# EAGLE library part USB-TTL_CH340 (library FansElectronics-Modul)
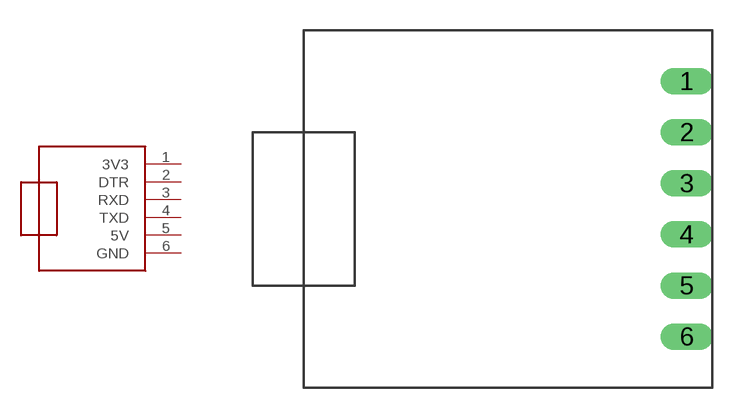
[diagram p41: symbol with the pads of USB-TTL_CH340; footprint USB-TTL_CH340]

Designator prefix MOD

## USB-TTL_CH340  [USB-TTL_CH340]
1  3V3  pwr
2  DTR  out
3  RXD  in
4  TXD  out
5  5V  pwr
6  GND  pwr

## Footprint USB-TTL_CH340 (pad centres in mm)
drill 0.8 long: 1 0,6.35; 2 0,3.81; 3 0,1.27; 4 0,-1.27; 5 0,-3.81; 6 0,-6.35